# Altium integrated library Linear Technology Charge_Pump.IntLib: 599 symbols (part 8 of 29)
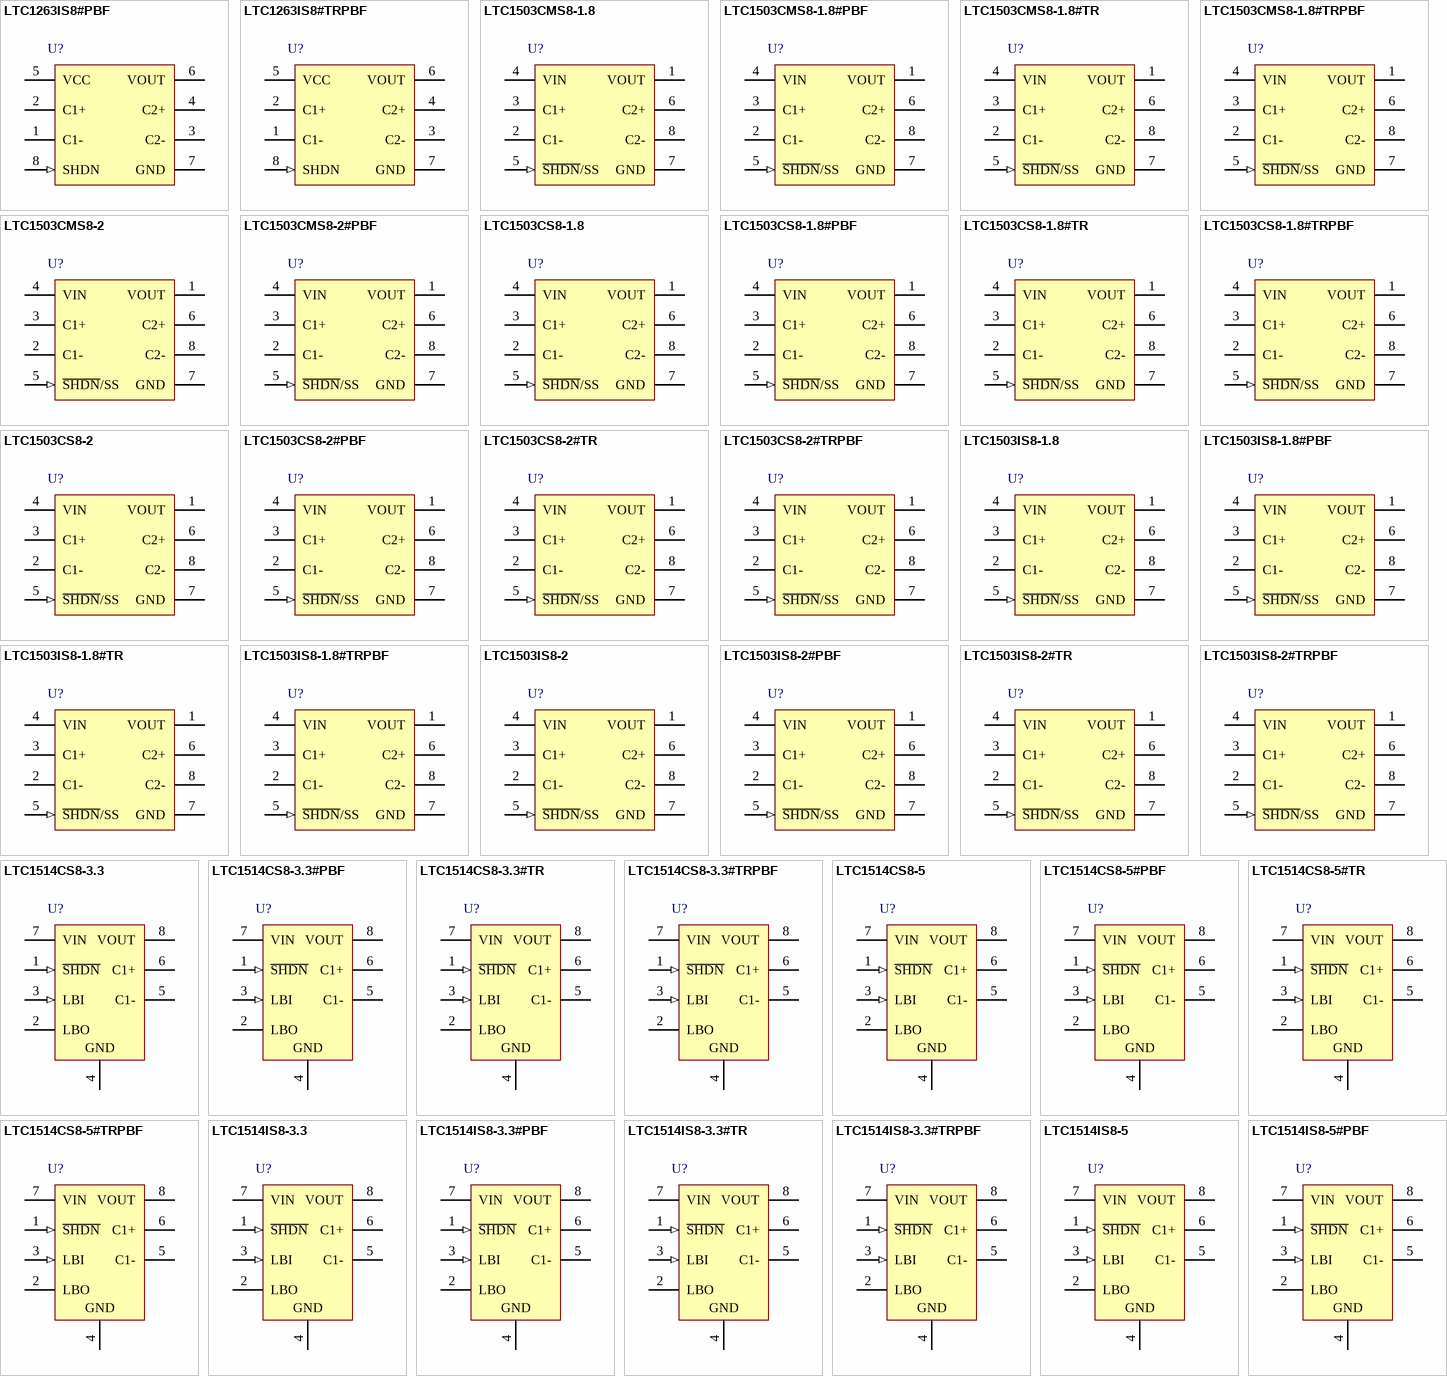
[diagram p23: symbols LTC1263IS8#PBF to LTC1514IS8-5#PBF]

## LTC1514CS8-5#PBF
designator U?
Step-Up / Step-Down Switched Capacitor DC/DC Converter with Low-Battery Comparator, 2.7 to 10 V Vin, 5 V Vout, 8-pin SOIC (S8-8), 0 to 70 degC, Pb-Free; Manufacturer: Linear Technology; PartNumber: LTC1514CS8-5#PBF; Frequency(kHz): 650; Ishutdown(uA): 10; Isupply(mA): 0.06; Max Iout(mA): 50; Vin Min(V): 2.7; Voutput: 5V; PackageVersion: Rev. G, 03/2012; PackageReference: S8-8; PackageDescription: 8-Pin Plastic Small Outline (Narrow .150 Inch), Body 4.9 x 3.9 mm, Pitch 1.27 mm; Supplier 1: Digi-Key; Supplier Part Number 1: LTC1514CS8-5#PBF-ND; RoHS: TRUE; Vin Max(V): 10; Mounting Technology: Surface Mount; ComponentLink1Description: Manufacturer URL; ComponentLink1URL: http://www.linear.com/; ComponentLink2Description: Datasheet; ComponentLink2URL: http://cds.linear.com/docs/en/datasheet/151435f.pdf; ComponentLink3Description: Package Specification; ComponentLink3URL: http://cds.linear.com/docs/en/packaging/05081610_G_SO8.pdf
footprint LT-S8-8_N (SOIC, 8-Leads, Body 5x4mm, Pitch 1.27mm, IPC Medium Density)
footprint LT-S8-8_L (SOIC, 8-Leads, Body 5x4mm, Pitch 1.27mm, IPC High Density)
footprint LT-S8-8_M (SOIC, 8-Leads, Body 5x4mm, Pitch 1.27mm, IPC Low Density)
pins: 1 ~{SHDN} (in) "Shutdown Input. A logic low on the S\H\D\N\ pin puts the part into shutdown mode. A logic high (VS\H\D\N\ >= 1.6V) enables the charge pump regulator. At high VIN voltages, the S\H\D\N\ pin may still be controlled with 3V (See Datasheet)", 2 LBO (oc) "Open-Drain, Low-Battery Comparator Output. This pin will pull low whenever the voltage on the LBI pin is less than the internal reference voltage (1.145V typ).", 3 LBI (in) "Low-Battery Comparator Input. The voltage on this pin is compared to the internal reference voltage (1.145V). The LBO output will sink current when the voltage on the LBI pin is less than 1.145V typ. The low-battery (See Datasheet)", 4 GND (power) "Ground. Should be tied to a ground plane for best performance.", 5 C1- "Charge Pump Flying Capacitor, Negative Terminal.", 6 C1+ "Charge Pump Flying Capacitor, Positive Terminal.", 7 VIN (power) "Charge Pump Input Voltage. May be between 2V and 8V (LTC1514-3.3) or between 2.7V and 10V (LTC1514-5). VIN should be bypassed with a >=10uF low ESR capacitor as close as possible to the pin for best performance.", 8 VOUT (power) "Regulated Output Voltage. The output voltage is internally set to either 3.3V (LTC1514-3.3) or to 5V (LTC1514-5) using an internal resistor divider. VOUT should be bypassed with a >=10uF low ESR capacitor as close as (See Datasheet)"

## LTC1514CS8-5#TR
designator U?
Step-Up / Step-Down Switched Capacitor DC/DC Converter with Low-Battery Comparator, 2.7 to 10 V Vin, 5 V Vout, 8-pin SOIC (S8-8), 0 to 70 degC, Tape and Reel; Manufacturer: Linear Technology; PartNumber: LTC1514CS8-5#TR; Frequency(kHz): 650; Ishutdown(uA): 10; Isupply(mA): 0.06; Max Iout(mA): 50; Vin Min(V): 2.7; Voutput: 5V; PackageVersion: Rev. G, 03/2012; PackageReference: S8-8; PackageDescription: 8-Pin Plastic Small Outline (Narrow .150 Inch), Body 4.9 x 3.9 mm, Pitch 1.27 mm; Supplier 1: Digi-Key; Supplier Part Number 1: LTC1514CS8-5#TR-ND; Packing: Tape and Reel; RoHS: FALSE; Vin Max(V): 10; Mounting Technology: Surface Mount; ComponentLink1Description: Manufacturer URL; ComponentLink1URL: http://www.linear.com/; ComponentLink2Description: Datasheet; ComponentLink2URL: http://cds.linear.com/docs/en/datasheet/151435f.pdf; ComponentLink3Description: Package Specification; ComponentLink3URL: http://cds.linear.com/docs/en/packaging/05081610_G_SO8.pdf
footprint LT-S8-8_N (SOIC, 8-Leads, Body 5x4mm, Pitch 1.27mm, IPC Medium Density)
footprint LT-S8-8_L (SOIC, 8-Leads, Body 5x4mm, Pitch 1.27mm, IPC High Density)
footprint LT-S8-8_M (SOIC, 8-Leads, Body 5x4mm, Pitch 1.27mm, IPC Low Density)
pins: 1 ~{SHDN} (in) "Shutdown Input. A logic low on the S\H\D\N\ pin puts the part into shutdown mode. A logic high (VS\H\D\N\ >= 1.6V) enables the charge pump regulator. At high VIN voltages, the S\H\D\N\ pin may still be controlled with 3V (See Datasheet)", 2 LBO (oc) "Open-Drain, Low-Battery Comparator Output. This pin will pull low whenever the voltage on the LBI pin is less than the internal reference voltage (1.145V typ).", 3 LBI (in) "Low-Battery Comparator Input. The voltage on this pin is compared to the internal reference voltage (1.145V). The LBO output will sink current when the voltage on the LBI pin is less than 1.145V typ. The low-battery (See Datasheet)", 4 GND (power) "Ground. Should be tied to a ground plane for best performance.", 5 C1- "Charge Pump Flying Capacitor, Negative Terminal.", 6 C1+ "Charge Pump Flying Capacitor, Positive Terminal.", 7 VIN (power) "Charge Pump Input Voltage. May be between 2V and 8V (LTC1514-3.3) or between 2.7V and 10V (LTC1514-5). VIN should be bypassed with a >=10uF low ESR capacitor as close as possible to the pin for best performance.", 8 VOUT (power) "Regulated Output Voltage. The output voltage is internally set to either 3.3V (LTC1514-3.3) or to 5V (LTC1514-5) using an internal resistor divider. VOUT should be bypassed with a >=10uF low ESR capacitor as close as (See Datasheet)"

## LTC1514CS8-5#TRPBF
designator U?
Step-Up / Step-Down Switched Capacitor DC/DC Converter with Low-Battery Comparator, 2.7 to 10 V Vin, 5 V Vout, 8-pin SOIC (S8-8), 0 to 70 degC, Pb-Free, Tape and Reel; Manufacturer: Linear Technology; PartNumber: LTC1514CS8-5#TRPBF; Frequency(kHz): 650; Ishutdown(uA): 10; Isupply(mA): 0.06; Max Iout(mA): 50; Vin Min(V): 2.7; Voutput: 5V; PackageVersion: Rev. G, 03/2012; PackageReference: S8-8; PackageDescription: 8-Pin Plastic Small Outline (Narrow .150 Inch), Body 4.9 x 3.9 mm, Pitch 1.27 mm; Supplier 1: Digi-Key; Supplier Part Number 1: LTC1514CS8-5#TRPBF-ND; Packing: Tape and Reel; RoHS: TRUE; Vin Max(V): 10; Mounting Technology: Surface Mount; ComponentLink1Description: Manufacturer URL; ComponentLink1URL: http://www.linear.com/; ComponentLink2Description: Datasheet; ComponentLink2URL: http://cds.linear.com/docs/en/datasheet/151435f.pdf; ComponentLink3Description: Package Specification; ComponentLink3URL: http://cds.linear.com/docs/en/packaging/05081610_G_SO8.pdf
footprint LT-S8-8_N (SOIC, 8-Leads, Body 5x4mm, Pitch 1.27mm, IPC Medium Density)
footprint LT-S8-8_L (SOIC, 8-Leads, Body 5x4mm, Pitch 1.27mm, IPC High Density)
footprint LT-S8-8_M (SOIC, 8-Leads, Body 5x4mm, Pitch 1.27mm, IPC Low Density)
pins: 1 ~{SHDN} (in) "Shutdown Input. A logic low on the S\H\D\N\ pin puts the part into shutdown mode. A logic high (VS\H\D\N\ >= 1.6V) enables the charge pump regulator. At high VIN voltages, the S\H\D\N\ pin may still be controlled with 3V (See Datasheet)", 2 LBO (oc) "Open-Drain, Low-Battery Comparator Output. This pin will pull low whenever the voltage on the LBI pin is less than the internal reference voltage (1.145V typ).", 3 LBI (in) "Low-Battery Comparator Input. The voltage on this pin is compared to the internal reference voltage (1.145V). The LBO output will sink current when the voltage on the LBI pin is less than 1.145V typ. The low-battery (See Datasheet)", 4 GND (power) "Ground. Should be tied to a ground plane for best performance.", 5 C1- "Charge Pump Flying Capacitor, Negative Terminal.", 6 C1+ "Charge Pump Flying Capacitor, Positive Terminal.", 7 VIN (power) "Charge Pump Input Voltage. May be between 2V and 8V (LTC1514-3.3) or between 2.7V and 10V (LTC1514-5). VIN should be bypassed with a >=10uF low ESR capacitor as close as possible to the pin for best performance.", 8 VOUT (power) "Regulated Output Voltage. The output voltage is internally set to either 3.3V (LTC1514-3.3) or to 5V (LTC1514-5) using an internal resistor divider. VOUT should be bypassed with a >=10uF low ESR capacitor as close as (See Datasheet)"

## LTC1514IS8-3.3
designator U?
Step-Up / Step-Down Switched Capacitor DC/DC Converter with Low-Battery Comparator, 2 to 8 V Vin, 3.3 V Vout, 8-pin SOIC (S8-8), -40 to 85 degC; Manufacturer: Linear Technology; PartNumber: LTC1514IS8-3.3; Frequency(kHz): 650; Ishutdown(uA): 10; Isupply(mA): 0.06; Max Iout(mA): 50; Vin Max(V): 8; Vin Min(V): 2; Voutput: 3.3V; PackageVersion: Rev. G, 03/2012; PackageReference: S8-8; PackageDescription: 8-Pin Plastic Small Outline (Narrow .150 Inch), Body 4.9 x 3.9 mm, Pitch 1.27 mm; Supplier 1: Digi-Key; Supplier Part Number 1: LTC1514IS8-3.3-ND; RoHS: FALSE; Mounting Technology: Surface Mount; ComponentLink1Description: Manufacturer URL; ComponentLink1URL: http://www.linear.com/; ComponentLink2Description: Datasheet; ComponentLink2URL: http://cds.linear.com/docs/en/datasheet/151435f.pdf; ComponentLink3Description: Package Specification; ComponentLink3URL: http://cds.linear.com/docs/en/packaging/05081610_G_SO8.pdf
footprint LT-S8-8_N (SOIC, 8-Leads, Body 5x4mm, Pitch 1.27mm, IPC Medium Density)
footprint LT-S8-8_L (SOIC, 8-Leads, Body 5x4mm, Pitch 1.27mm, IPC High Density)
footprint LT-S8-8_M (SOIC, 8-Leads, Body 5x4mm, Pitch 1.27mm, IPC Low Density)
pins: 1 ~{SHDN} (in) "Shutdown Input. A logic low on the S\H\D\N\ pin puts the part into shutdown mode. A logic high (VS\H\D\N\ >= 1.6V) enables the charge pump regulator. At high VIN voltages, the S\H\D\N\ pin may still be controlled with 3V (See Datasheet)", 2 LBO (oc) "Open-Drain, Low-Battery Comparator Output. This pin will pull low whenever the voltage on the LBI pin is less than the internal reference voltage (1.145V typ).", 3 LBI (in) "Low-Battery Comparator Input. The voltage on this pin is compared to the internal reference voltage (1.145V). The LBO output will sink current when the voltage on the LBI pin is less than 1.145V typ. The low-battery (See Datasheet)", 4 GND (power) "Ground. Should be tied to a ground plane for best performance.", 5 C1- "Charge Pump Flying Capacitor, Negative Terminal.", 6 C1+ "Charge Pump Flying Capacitor, Positive Terminal.", 7 VIN (power) "Charge Pump Input Voltage. May be between 2V and 8V (LTC1514-3.3) or between 2.7V and 10V (LTC1514-5). VIN should be bypassed with a >=10uF low ESR capacitor as close as possible to the pin for best performance.", 8 VOUT (power) "Regulated Output Voltage. The output voltage is internally set to either 3.3V (LTC1514-3.3) or to 5V (LTC1514-5) using an internal resistor divider. VOUT should be bypassed with a >=10uF low ESR capacitor as close as (See Datasheet)"

## LTC1514IS8-3.3#PBF
designator U?
Step-Up / Step-Down Switched Capacitor DC/DC Converter with Low-Battery Comparator, 2 to 8 V Vin, 3.3 V Vout, 8-pin SOIC (S8-8), -40 to 85 degC, Pb-Free; Manufacturer: Linear Technology; PartNumber: LTC1514IS8-3.3#PBF; Frequency(kHz): 650; Ishutdown(uA): 10; Isupply(mA): 0.06; Max Iout(mA): 50; Vin Max(V): 8; Vin Min(V): 2; Voutput: 3.3V; PackageVersion: Rev. G, 03/2012; PackageReference: S8-8; PackageDescription: 8-Pin Plastic Small Outline (Narrow .150 Inch), Body 4.9 x 3.9 mm, Pitch 1.27 mm; Supplier 1: Digi-Key; Supplier Part Number 1: LTC1514IS8-3.3#PBF-ND; RoHS: TRUE; Mounting Technology: Surface Mount; ComponentLink1Description: Manufacturer URL; ComponentLink1URL: http://www.linear.com/; ComponentLink2Description: Datasheet; ComponentLink2URL: http://cds.linear.com/docs/en/datasheet/151435f.pdf; ComponentLink3Description: Package Specification; ComponentLink3URL: http://cds.linear.com/docs/en/packaging/05081610_G_SO8.pdf
footprint LT-S8-8_N (SOIC, 8-Leads, Body 5x4mm, Pitch 1.27mm, IPC Medium Density)
footprint LT-S8-8_L (SOIC, 8-Leads, Body 5x4mm, Pitch 1.27mm, IPC High Density)
footprint LT-S8-8_M (SOIC, 8-Leads, Body 5x4mm, Pitch 1.27mm, IPC Low Density)
pins: 1 ~{SHDN} (in) "Shutdown Input. A logic low on the S\H\D\N\ pin puts the part into shutdown mode. A logic high (VS\H\D\N\ >= 1.6V) enables the charge pump regulator. At high VIN voltages, the S\H\D\N\ pin may still be controlled with 3V (See Datasheet)", 2 LBO (oc) "Open-Drain, Low-Battery Comparator Output. This pin will pull low whenever the voltage on the LBI pin is less than the internal reference voltage (1.145V typ).", 3 LBI (in) "Low-Battery Comparator Input. The voltage on this pin is compared to the internal reference voltage (1.145V). The LBO output will sink current when the voltage on the LBI pin is less than 1.145V typ. The low-battery (See Datasheet)", 4 GND (power) "Ground. Should be tied to a ground plane for best performance.", 5 C1- "Charge Pump Flying Capacitor, Negative Terminal.", 6 C1+ "Charge Pump Flying Capacitor, Positive Terminal.", 7 VIN (power) "Charge Pump Input Voltage. May be between 2V and 8V (LTC1514-3.3) or between 2.7V and 10V (LTC1514-5). VIN should be bypassed with a >=10uF low ESR capacitor as close as possible to the pin for best performance.", 8 VOUT (power) "Regulated Output Voltage. The output voltage is internally set to either 3.3V (LTC1514-3.3) or to 5V (LTC1514-5) using an internal resistor divider. VOUT should be bypassed with a >=10uF low ESR capacitor as close as (See Datasheet)"

## LTC1514IS8-3.3#TR
designator U?
Step-Up / Step-Down Switched Capacitor DC/DC Converter with Low-Battery Comparator, 2 to 8 V Vin, 3.3 V Vout, 8-pin SOIC (S8-8), -40 to 85 degC, Tape and Reel; Manufacturer: Linear Technology; PartNumber: LTC1514IS8-3.3#TR; Frequency(kHz): 650; Ishutdown(uA): 10; Isupply(mA): 0.06; Max Iout(mA): 50; Vin Max(V): 8; Vin Min(V): 2; Voutput: 3.3V; PackageVersion: Rev. G, 03/2012; PackageReference: S8-8; PackageDescription: 8-Pin Plastic Small Outline (Narrow .150 Inch), Body 4.9 x 3.9 mm, Pitch 1.27 mm; Supplier 1: Digi-Key; Supplier Part Number 1: LTC1514IS8-3.3#TR-ND; Packing: Tape and Reel; RoHS: FALSE; Mounting Technology: Surface Mount; ComponentLink1Description: Manufacturer URL; ComponentLink1URL: http://www.linear.com/; ComponentLink2Description: Datasheet; ComponentLink2URL: http://cds.linear.com/docs/en/datasheet/151435f.pdf; ComponentLink3Description: Package Specification; ComponentLink3URL: http://cds.linear.com/docs/en/packaging/05081610_G_SO8.pdf
footprint LT-S8-8_N (SOIC, 8-Leads, Body 5x4mm, Pitch 1.27mm, IPC Medium Density)
footprint LT-S8-8_L (SOIC, 8-Leads, Body 5x4mm, Pitch 1.27mm, IPC High Density)
footprint LT-S8-8_M (SOIC, 8-Leads, Body 5x4mm, Pitch 1.27mm, IPC Low Density)
pins: 1 ~{SHDN} (in) "Shutdown Input. A logic low on the S\H\D\N\ pin puts the part into shutdown mode. A logic high (VS\H\D\N\ >= 1.6V) enables the charge pump regulator. At high VIN voltages, the S\H\D\N\ pin may still be controlled with 3V (See Datasheet)", 2 LBO (oc) "Open-Drain, Low-Battery Comparator Output. This pin will pull low whenever the voltage on the LBI pin is less than the internal reference voltage (1.145V typ).", 3 LBI (in) "Low-Battery Comparator Input. The voltage on this pin is compared to the internal reference voltage (1.145V). The LBO output will sink current when the voltage on the LBI pin is less than 1.145V typ. The low-battery (See Datasheet)", 4 GND (power) "Ground. Should be tied to a ground plane for best performance.", 5 C1- "Charge Pump Flying Capacitor, Negative Terminal.", 6 C1+ "Charge Pump Flying Capacitor, Positive Terminal.", 7 VIN (power) "Charge Pump Input Voltage. May be between 2V and 8V (LTC1514-3.3) or between 2.7V and 10V (LTC1514-5). VIN should be bypassed with a >=10uF low ESR capacitor as close as possible to the pin for best performance.", 8 VOUT (power) "Regulated Output Voltage. The output voltage is internally set to either 3.3V (LTC1514-3.3) or to 5V (LTC1514-5) using an internal resistor divider. VOUT should be bypassed with a >=10uF low ESR capacitor as close as (See Datasheet)"

## LTC1514IS8-3.3#TRPBF
designator U?
Step-Up / Step-Down Switched Capacitor DC/DC Converter with Low-Battery Comparator, 2 to 8 V Vin, 3.3 V Vout, 8-pin SOIC (S8-8), -40 to 85 degC, Pb-Free, Tape and Reel; Manufacturer: Linear Technology; PartNumber: LTC1514IS8-3.3#TRPBF; Frequency(kHz): 650; Ishutdown(uA): 10; Isupply(mA): 0.06; Max Iout(mA): 50; Vin Max(V): 8; Vin Min(V): 2; Voutput: 3.3V; PackageVersion: Rev. G, 03/2012; PackageReference: S8-8; PackageDescription: 8-Pin Plastic Small Outline (Narrow .150 Inch), Body 4.9 x 3.9 mm, Pitch 1.27 mm; Supplier 1: Digi-Key; Supplier Part Number 1: LTC1514IS8-3.3#TRPBF-ND; Packing: Tape and Reel; RoHS: TRUE; Mounting Technology: Surface Mount; ComponentLink1Description: Manufacturer URL; ComponentLink1URL: http://www.linear.com/; ComponentLink2Description: Datasheet; ComponentLink2URL: http://cds.linear.com/docs/en/datasheet/151435f.pdf; ComponentLink3Description: Package Specification; ComponentLink3URL: http://cds.linear.com/docs/en/packaging/05081610_G_SO8.pdf
footprint LT-S8-8_N (SOIC, 8-Leads, Body 5x4mm, Pitch 1.27mm, IPC Medium Density)
footprint LT-S8-8_L (SOIC, 8-Leads, Body 5x4mm, Pitch 1.27mm, IPC High Density)
footprint LT-S8-8_M (SOIC, 8-Leads, Body 5x4mm, Pitch 1.27mm, IPC Low Density)
pins: 1 ~{SHDN} (in) "Shutdown Input. A logic low on the S\H\D\N\ pin puts the part into shutdown mode. A logic high (VS\H\D\N\ >= 1.6V) enables the charge pump regulator. At high VIN voltages, the S\H\D\N\ pin may still be controlled with 3V (See Datasheet)", 2 LBO (oc) "Open-Drain, Low-Battery Comparator Output. This pin will pull low whenever the voltage on the LBI pin is less than the internal reference voltage (1.145V typ).", 3 LBI (in) "Low-Battery Comparator Input. The voltage on this pin is compared to the internal reference voltage (1.145V). The LBO output will sink current when the voltage on the LBI pin is less than 1.145V typ. The low-battery (See Datasheet)", 4 GND (power) "Ground. Should be tied to a ground plane for best performance.", 5 C1- "Charge Pump Flying Capacitor, Negative Terminal.", 6 C1+ "Charge Pump Flying Capacitor, Positive Terminal.", 7 VIN (power) "Charge Pump Input Voltage. May be between 2V and 8V (LTC1514-3.3) or between 2.7V and 10V (LTC1514-5). VIN should be bypassed with a >=10uF low ESR capacitor as close as possible to the pin for best performance.", 8 VOUT (power) "Regulated Output Voltage. The output voltage is internally set to either 3.3V (LTC1514-3.3) or to 5V (LTC1514-5) using an internal resistor divider. VOUT should be bypassed with a >=10uF low ESR capacitor as close as (See Datasheet)"

## LTC1514IS8-5
designator U?
Step-Up / Step-Down Switched Capacitor DC/DC Converter with Low-Battery Comparator, 2.7 to 10 V Vin, 5 V Vout, 8-pin SOIC (S8-8), -40 to 85 degC; Manufacturer: Linear Technology; PartNumber: LTC1514IS8-5; Frequency(kHz): 650; Ishutdown(uA): 10; Isupply(mA): 0.06; Max Iout(mA): 50; Vin Min(V): 2.7; Voutput: 5V; PackageVersion: Rev. G, 03/2012; PackageReference: S8-8; PackageDescription: 8-Pin Plastic Small Outline (Narrow .150 Inch), Body 4.9 x 3.9 mm, Pitch 1.27 mm; Supplier 1: Digi-Key; Supplier Part Number 1: LTC1514IS8-5-ND; RoHS: FALSE; Vin Max(V): 10; Mounting Technology: Surface Mount; ComponentLink1Description: Manufacturer URL; ComponentLink1URL: http://www.linear.com/; ComponentLink2Description: Datasheet; ComponentLink2URL: http://cds.linear.com/docs/en/datasheet/151435f.pdf; ComponentLink3Description: Package Specification; ComponentLink3URL: http://cds.linear.com/docs/en/packaging/05081610_G_SO8.pdf
footprint LT-S8-8_N (SOIC, 8-Leads, Body 5x4mm, Pitch 1.27mm, IPC Medium Density)
footprint LT-S8-8_L (SOIC, 8-Leads, Body 5x4mm, Pitch 1.27mm, IPC High Density)
footprint LT-S8-8_M (SOIC, 8-Leads, Body 5x4mm, Pitch 1.27mm, IPC Low Density)
pins: 1 ~{SHDN} (in) "Shutdown Input. A logic low on the S\H\D\N\ pin puts the part into shutdown mode. A logic high (VS\H\D\N\ >= 1.6V) enables the charge pump regulator. At high VIN voltages, the S\H\D\N\ pin may still be controlled with 3V (See Datasheet)", 2 LBO (oc) "Open-Drain, Low-Battery Comparator Output. This pin will pull low whenever the voltage on the LBI pin is less than the internal reference voltage (1.145V typ).", 3 LBI (in) "Low-Battery Comparator Input. The voltage on this pin is compared to the internal reference voltage (1.145V). The LBO output will sink current when the voltage on the LBI pin is less than 1.145V typ. The low-battery (See Datasheet)", 4 GND (power) "Ground. Should be tied to a ground plane for best performance.", 5 C1- "Charge Pump Flying Capacitor, Negative Terminal.", 6 C1+ "Charge Pump Flying Capacitor, Positive Terminal.", 7 VIN (power) "Charge Pump Input Voltage. May be between 2V and 8V (LTC1514-3.3) or between 2.7V and 10V (LTC1514-5). VIN should be bypassed with a >=10uF low ESR capacitor as close as possible to the pin for best performance.", 8 VOUT (power) "Regulated Output Voltage. The output voltage is internally set to either 3.3V (LTC1514-3.3) or to 5V (LTC1514-5) using an internal resistor divider. VOUT should be bypassed with a >=10uF low ESR capacitor as close as (See Datasheet)"

## LTC1514IS8-5#PBF
designator U?
Step-Up / Step-Down Switched Capacitor DC/DC Converter with Low-Battery Comparator, 2.7 to 10 V Vin, 5 V Vout, 8-pin SOIC (S8-8), -40 to 85 degC, Pb-Free; Manufacturer: Linear Technology; PartNumber: LTC1514IS8-5#PBF; Frequency(kHz): 650; Ishutdown(uA): 10; Isupply(mA): 0.06; Max Iout(mA): 50; Vin Min(V): 2.7; Voutput: 5V; PackageVersion: Rev. G, 03/2012; PackageReference: S8-8; PackageDescription: 8-Pin Plastic Small Outline (Narrow .150 Inch), Body 4.9 x 3.9 mm, Pitch 1.27 mm; Supplier 1: Digi-Key; Supplier Part Number 1: LTC1514IS8-5#PBF-ND; Supplier 2: Newark; Supplier Part Number 2: 56M1709; RoHS: TRUE; Vin Max(V): 10; Mounting Technology: Surface Mount; ComponentLink1Description: Manufacturer URL; ComponentLink1URL: http://www.linear.com/; ComponentLink2Description: Datasheet; ComponentLink2URL: http://cds.linear.com/docs/en/datasheet/151435f.pdf; ComponentLink3Description: Package Specification; ComponentLink3URL: http://cds.linear.com/docs/en/packaging/05081610_G_SO8.pdf
footprint LT-S8-8_N (SOIC, 8-Leads, Body 5x4mm, Pitch 1.27mm, IPC Medium Density)
footprint LT-S8-8_L (SOIC, 8-Leads, Body 5x4mm, Pitch 1.27mm, IPC High Density)
footprint LT-S8-8_M (SOIC, 8-Leads, Body 5x4mm, Pitch 1.27mm, IPC Low Density)
pins: 1 ~{SHDN} (in) "Shutdown Input. A logic low on the S\H\D\N\ pin puts the part into shutdown mode. A logic high (VS\H\D\N\ >= 1.6V) enables the charge pump regulator. At high VIN voltages, the S\H\D\N\ pin may still be controlled with 3V (See Datasheet)", 2 LBO (oc) "Open-Drain, Low-Battery Comparator Output. This pin will pull low whenever the voltage on the LBI pin is less than the internal reference voltage (1.145V typ).", 3 LBI (in) "Low-Battery Comparator Input. The voltage on this pin is compared to the internal reference voltage (1.145V). The LBO output will sink current when the voltage on the LBI pin is less than 1.145V typ. The low-battery (See Datasheet)", 4 GND (power) "Ground. Should be tied to a ground plane for best performance.", 5 C1- "Charge Pump Flying Capacitor, Negative Terminal.", 6 C1+ "Charge Pump Flying Capacitor, Positive Terminal.", 7 VIN (power) "Charge Pump Input Voltage. May be between 2V and 8V (LTC1514-3.3) or between 2.7V and 10V (LTC1514-5). VIN should be bypassed with a >=10uF low ESR capacitor as close as possible to the pin for best performance.", 8 VOUT (power) "Regulated Output Voltage. The output voltage is internally set to either 3.3V (LTC1514-3.3) or to 5V (LTC1514-5) using an internal resistor divider. VOUT should be bypassed with a >=10uF low ESR capacitor as close as (See Datasheet)"

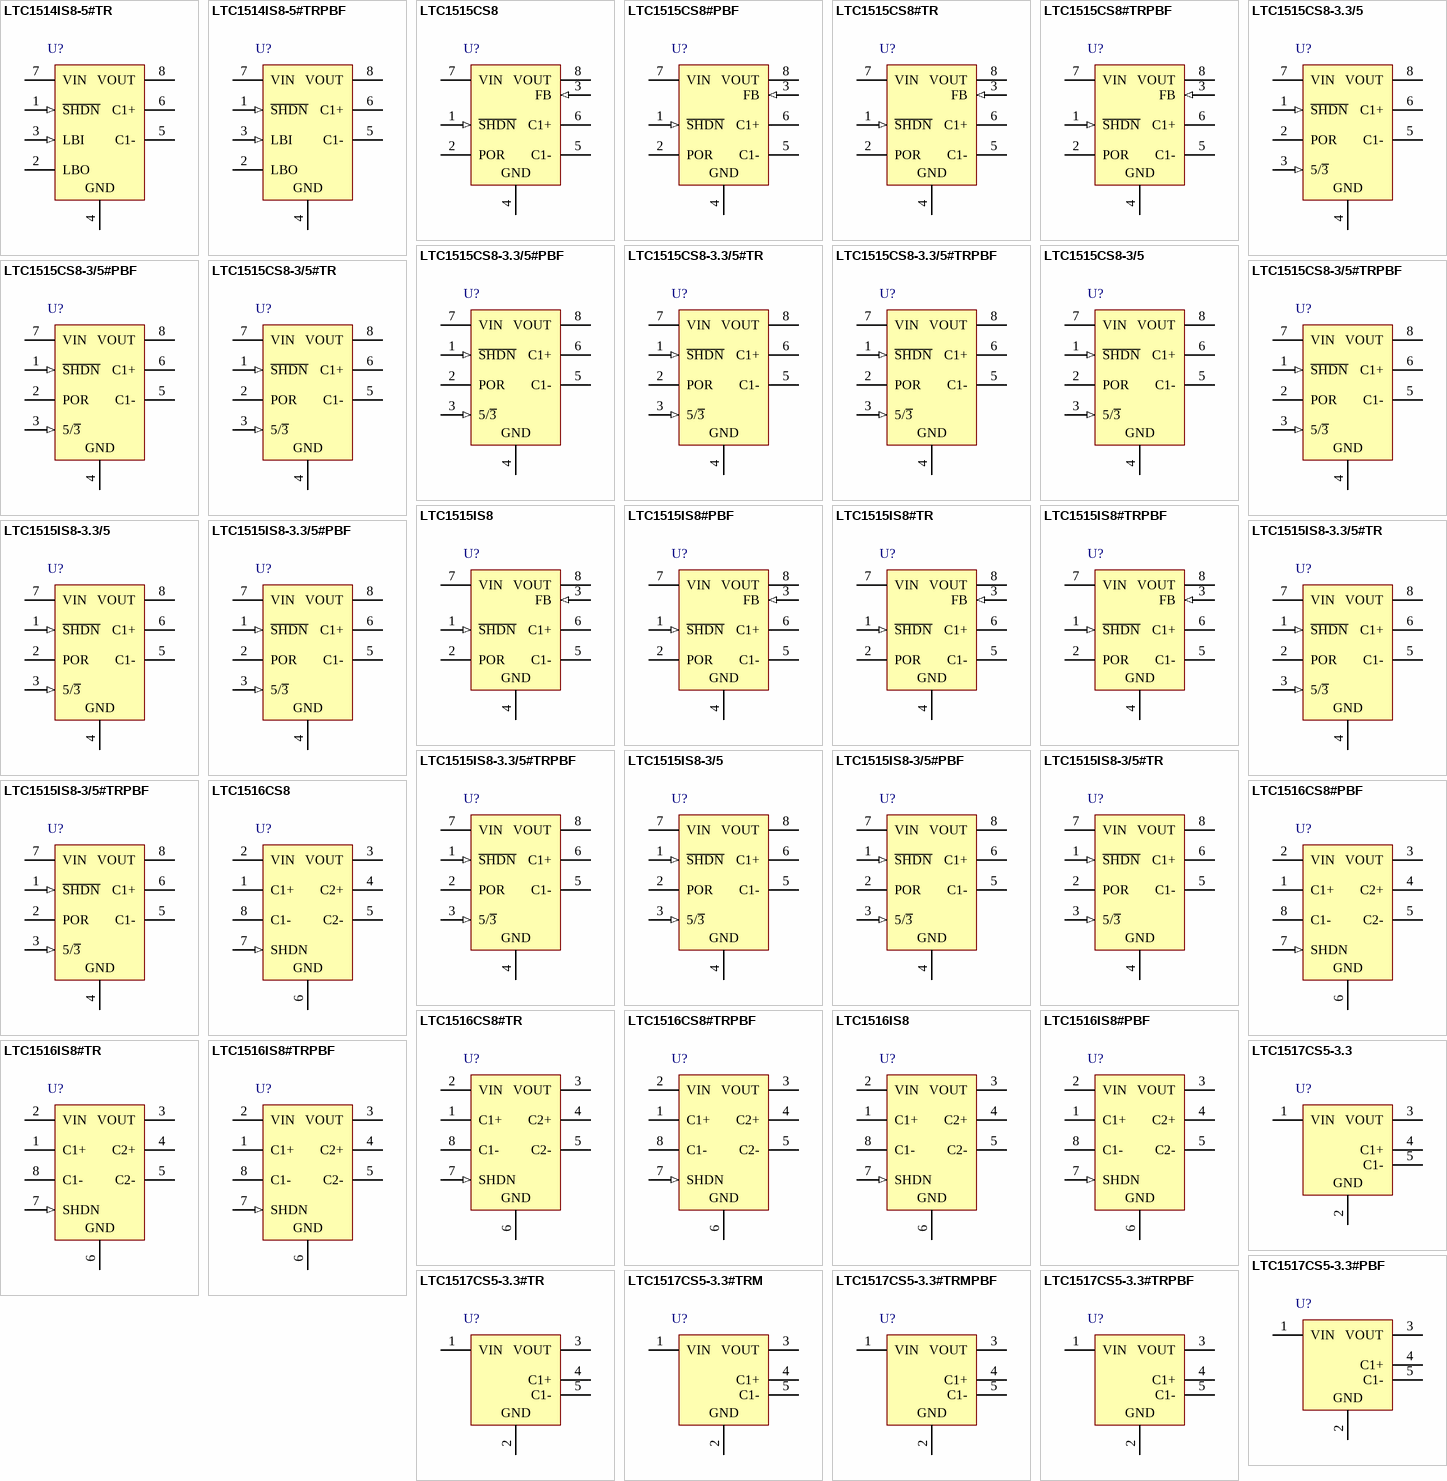
[diagram p5: symbols LTC1514IS8-5#TR to LTC1517CS5-3.3#TRPBF]

## LTC1514IS8-5#TR
designator U?
Step-Up / Step-Down Switched Capacitor DC/DC Converter with Low-Battery Comparator, 2.7 to 10 V Vin, 5 V Vout, 8-pin SOIC (S8-8), -40 to 85 degC, Tape and Reel; Manufacturer: Linear Technology; PartNumber: LTC1514IS8-5#TR; Frequency(kHz): 650; Ishutdown(uA): 10; Isupply(mA): 0.06; Max Iout(mA): 50; Vin Min(V): 2.7; Voutput: 5V; PackageVersion: Rev. G, 03/2012; PackageReference: S8-8; PackageDescription: 8-Pin Plastic Small Outline (Narrow .150 Inch), Body 4.9 x 3.9 mm, Pitch 1.27 mm; Supplier 1: Digi-Key; Supplier Part Number 1: LTC1514IS8-5#TR-ND; Packing: Tape and Reel; RoHS: FALSE; Vin Max(V): 10; Mounting Technology: Surface Mount; ComponentLink1Description: Manufacturer URL; ComponentLink1URL: http://www.linear.com/; ComponentLink2Description: Datasheet; ComponentLink2URL: http://cds.linear.com/docs/en/datasheet/151435f.pdf; ComponentLink3Description: Package Specification; ComponentLink3URL: http://cds.linear.com/docs/en/packaging/05081610_G_SO8.pdf
footprint LT-S8-8_N (SOIC, 8-Leads, Body 5x4mm, Pitch 1.27mm, IPC Medium Density)
footprint LT-S8-8_L (SOIC, 8-Leads, Body 5x4mm, Pitch 1.27mm, IPC High Density)
footprint LT-S8-8_M (SOIC, 8-Leads, Body 5x4mm, Pitch 1.27mm, IPC Low Density)
pins: 1 ~{SHDN} (in) "Shutdown Input. A logic low on the S\H\D\N\ pin puts the part into shutdown mode. A logic high (VS\H\D\N\ >= 1.6V) enables the charge pump regulator. At high VIN voltages, the S\H\D\N\ pin may still be controlled with 3V (See Datasheet)", 2 LBO (oc) "Open-Drain, Low-Battery Comparator Output. This pin will pull low whenever the voltage on the LBI pin is less than the internal reference voltage (1.145V typ).", 3 LBI (in) "Low-Battery Comparator Input. The voltage on this pin is compared to the internal reference voltage (1.145V). The LBO output will sink current when the voltage on the LBI pin is less than 1.145V typ. The low-battery (See Datasheet)", 4 GND (power) "Ground. Should be tied to a ground plane for best performance.", 5 C1- "Charge Pump Flying Capacitor, Negative Terminal.", 6 C1+ "Charge Pump Flying Capacitor, Positive Terminal.", 7 VIN (power) "Charge Pump Input Voltage. May be between 2V and 8V (LTC1514-3.3) or between 2.7V and 10V (LTC1514-5). VIN should be bypassed with a >=10uF low ESR capacitor as close as possible to the pin for best performance.", 8 VOUT (power) "Regulated Output Voltage. The output voltage is internally set to either 3.3V (LTC1514-3.3) or to 5V (LTC1514-5) using an internal resistor divider. VOUT should be bypassed with a >=10uF low ESR capacitor as close as (See Datasheet)"

## LTC1514IS8-5#TRPBF
designator U?
Step-Up / Step-Down Switched Capacitor DC/DC Converter with Low-Battery Comparator, 2.7 to 10 V Vin, 5 V Vout, 8-pin SOIC (S8-8), -40 to 85 degC, Pb-Free, Tape and Reel; Manufacturer: Linear Technology; PartNumber: LTC1514IS8-5#TRPBF; Frequency(kHz): 650; Ishutdown(uA): 10; Isupply(mA): 0.06; Max Iout(mA): 50; Vin Min(V): 2.7; Voutput: 5V; PackageVersion: Rev. G, 03/2012; PackageReference: S8-8; PackageDescription: 8-Pin Plastic Small Outline (Narrow .150 Inch), Body 4.9 x 3.9 mm, Pitch 1.27 mm; Supplier 1: Digi-Key; Supplier Part Number 1: LTC1514IS8-5#TRPBF-ND; Packing: Tape and Reel; RoHS: TRUE; Vin Max(V): 10; Mounting Technology: Surface Mount; ComponentLink1Description: Manufacturer URL; ComponentLink1URL: http://www.linear.com/; ComponentLink2Description: Datasheet; ComponentLink2URL: http://cds.linear.com/docs/en/datasheet/151435f.pdf; ComponentLink3Description: Package Specification; ComponentLink3URL: http://cds.linear.com/docs/en/packaging/05081610_G_SO8.pdf
footprint LT-S8-8_N (SOIC, 8-Leads, Body 5x4mm, Pitch 1.27mm, IPC Medium Density)
footprint LT-S8-8_L (SOIC, 8-Leads, Body 5x4mm, Pitch 1.27mm, IPC High Density)
footprint LT-S8-8_M (SOIC, 8-Leads, Body 5x4mm, Pitch 1.27mm, IPC Low Density)
pins: 1 ~{SHDN} (in) "Shutdown Input. A logic low on the S\H\D\N\ pin puts the part into shutdown mode. A logic high (VS\H\D\N\ >= 1.6V) enables the charge pump regulator. At high VIN voltages, the S\H\D\N\ pin may still be controlled with 3V (See Datasheet)", 2 LBO (oc) "Open-Drain, Low-Battery Comparator Output. This pin will pull low whenever the voltage on the LBI pin is less than the internal reference voltage (1.145V typ).", 3 LBI (in) "Low-Battery Comparator Input. The voltage on this pin is compared to the internal reference voltage (1.145V). The LBO output will sink current when the voltage on the LBI pin is less than 1.145V typ. The low-battery (See Datasheet)", 4 GND (power) "Ground. Should be tied to a ground plane for best performance.", 5 C1- "Charge Pump Flying Capacitor, Negative Terminal.", 6 C1+ "Charge Pump Flying Capacitor, Positive Terminal.", 7 VIN (power) "Charge Pump Input Voltage. May be between 2V and 8V (LTC1514-3.3) or between 2.7V and 10V (LTC1514-5). VIN should be bypassed with a >=10uF low ESR capacitor as close as possible to the pin for best performance.", 8 VOUT (power) "Regulated Output Voltage. The output voltage is internally set to either 3.3V (LTC1514-3.3) or to 5V (LTC1514-5) using an internal resistor divider. VOUT should be bypassed with a >=10uF low ESR capacitor as close as (See Datasheet)"

## LTC1515CS8
designator U?
Step-Up / Step-Down Switched Capacitor DC/DC Converter with Reset, 2 to 10 V Vin, Adjustable Vout, 8-pin SOIC (S8-8), 0 to 70 degC; Manufacturer: Linear Technology; PartNumber: LTC1515CS8; Frequency(kHz): 650; Ishutdown(uA): 1; Isupply(mA): 0.06; Max Iout(mA): 50; Vin Max(V): 10; Vin Min(V): 2; Voutput: Adj; PackageVersion: Rev. G, 03/2012; PackageReference: S8-8; PackageDescription: 8-Pin Plastic Small Outline (Narrow .150 Inch), Body 4.9 x 3.9 mm, Pitch 1.27 mm; Supplier 1: Digi-Key; Supplier Part Number 1: LTC1515CS8-ND; RoHS: FALSE; Mounting Technology: Surface Mount; ComponentLink1Description: Manufacturer URL; ComponentLink1URL: http://www.linear.com/; ComponentLink2Description: Datasheet; ComponentLink2URL: http://cds.linear.com/docs/en/datasheet/1515sf.pdf; ComponentLink3Description: Package Specification; ComponentLink3URL: http://cds.linear.com/docs/en/packaging/05081610_G_SO8.pdf
footprint LT-S8-8_N (SOIC, 8-Leads, Body 5x4mm, Pitch 1.27mm, IPC Medium Density)
footprint LT-S8-8_L (SOIC, 8-Leads, Body 5x4mm, Pitch 1.27mm, IPC High Density)
footprint LT-S8-8_M (SOIC, 8-Leads, Body 5x4mm, Pitch 1.27mm, IPC Low Density)
pins: 1 ~{SHDN} (in) "Shutdown Input. A logic low on the S\H\D\N\ pin puts the part into shutdown mode. A logic high (VS\H\D\N\ >= 1.6V) enables the charge pump regulator. At high VIN voltages, the S\H\D\N\ pin may still be controlled with 3V (See Datasheet)", 2 POR (oc) "Open-Drain Power-On Reset Output. This pin will pull low upon initial power-up, during shutdown or until VOUT has been within 6.5% of its regulated value for more than 200ms typ.", 3 FB (in) "Feedback Input. The voltage on this pin is compared to the internal reference voltage (1.232V) to keep the output in regulation. An external resistor divider is required between VOUT and FB to adjust the output voltage. (See Datasheet)", 4 GND (power) "Ground. Should be tied to a ground plane for best performance.", 5 C1- "Charge Pump Flying Capacitor, Negative Terminal.", 6 C1+ "Charge Pump Flying Capacitor, Positive Terminal.", 7 VIN (power) "Charge Pump Input Voltage. May be between 2V and 10V. VIN should be bypassed with a >=10uF low ESR capacitor as close as possible to the pin for best performance.", 8 VOUT (power) "Regulated Output Voltage. The output voltage is internally set to either 3V/5V, 3.3V/5V or adjustable using an external resistor divider (LTC1515). VOUT should be bypassed with a >= 10uF low ESR capacitor as close as (See Datasheet)"

## LTC1515CS8#PBF
designator U?
Step-Up / Step-Down Switched Capacitor DC/DC Converter with Reset, 2 to 10 V Vin, Adjustable Vout, 8-pin SOIC (S8-8), 0 to 70 degC, Pb-Free; Manufacturer: Linear Technology; PartNumber: LTC1515CS8#PBF; Frequency(kHz): 650; Ishutdown(uA): 1; Isupply(mA): 0.06; Max Iout(mA): 50; Vin Max(V): 10; Vin Min(V): 2; Voutput: Adj; PackageVersion: Rev. G, 03/2012; PackageReference: S8-8; PackageDescription: 8-Pin Plastic Small Outline (Narrow .150 Inch), Body 4.9 x 3.9 mm, Pitch 1.27 mm; Supplier 1: Digi-Key; Supplier Part Number 1: LTC1515CS8#PBF-ND; Supplier 2: Farnell; Supplier Part Number 2: 1273877; RoHS: TRUE; Mounting Technology: Surface Mount; ComponentLink1Description: Manufacturer URL; ComponentLink1URL: http://www.linear.com/; ComponentLink2Description: Datasheet; ComponentLink2URL: http://cds.linear.com/docs/en/datasheet/1515sf.pdf; ComponentLink3Description: Package Specification; ComponentLink3URL: http://cds.linear.com/docs/en/packaging/05081610_G_SO8.pdf
footprint LT-S8-8_N (SOIC, 8-Leads, Body 5x4mm, Pitch 1.27mm, IPC Medium Density)
footprint LT-S8-8_L (SOIC, 8-Leads, Body 5x4mm, Pitch 1.27mm, IPC High Density)
footprint LT-S8-8_M (SOIC, 8-Leads, Body 5x4mm, Pitch 1.27mm, IPC Low Density)
pins: 1 ~{SHDN} (in) "Shutdown Input. A logic low on the S\H\D\N\ pin puts the part into shutdown mode. A logic high (VS\H\D\N\ >= 1.6V) enables the charge pump regulator. At high VIN voltages, the S\H\D\N\ pin may still be controlled with 3V (See Datasheet)", 2 POR (oc) "Open-Drain Power-On Reset Output. This pin will pull low upon initial power-up, during shutdown or until VOUT has been within 6.5% of its regulated value for more than 200ms typ.", 3 FB (in) "Feedback Input. The voltage on this pin is compared to the internal reference voltage (1.232V) to keep the output in regulation. An external resistor divider is required between VOUT and FB to adjust the output voltage. (See Datasheet)", 4 GND (power) "Ground. Should be tied to a ground plane for best performance.", 5 C1- "Charge Pump Flying Capacitor, Negative Terminal.", 6 C1+ "Charge Pump Flying Capacitor, Positive Terminal.", 7 VIN (power) "Charge Pump Input Voltage. May be between 2V and 10V. VIN should be bypassed with a >=10uF low ESR capacitor as close as possible to the pin for best performance.", 8 VOUT (power) "Regulated Output Voltage. The output voltage is internally set to either 3V/5V, 3.3V/5V or adjustable using an external resistor divider (LTC1515). VOUT should be bypassed with a >= 10uF low ESR capacitor as close as (See Datasheet)"

## LTC1515CS8#TR
designator U?
Step-Up / Step-Down Switched Capacitor DC/DC Converter with Reset, 2 to 10 V Vin, Adjustable Vout, 8-pin SOIC (S8-8), 0 to 70 degC, Tape and Reel; Manufacturer: Linear Technology; PartNumber: LTC1515CS8#TR; Frequency(kHz): 650; Ishutdown(uA): 1; Isupply(mA): 0.06; Max Iout(mA): 50; Vin Max(V): 10; Vin Min(V): 2; Voutput: Adj; PackageVersion: Rev. G, 03/2012; PackageReference: S8-8; PackageDescription: 8-Pin Plastic Small Outline (Narrow .150 Inch), Body 4.9 x 3.9 mm, Pitch 1.27 mm; Supplier 1: Digi-Key; Supplier Part Number 1: LTC1515CS8#TR-ND; Packing: Tape and Reel; RoHS: FALSE; Mounting Technology: Surface Mount; ComponentLink1Description: Manufacturer URL; ComponentLink1URL: http://www.linear.com/; ComponentLink2Description: Datasheet; ComponentLink2URL: http://cds.linear.com/docs/en/datasheet/1515sf.pdf; ComponentLink3Description: Package Specification; ComponentLink3URL: http://cds.linear.com/docs/en/packaging/05081610_G_SO8.pdf
footprint LT-S8-8_N (SOIC, 8-Leads, Body 5x4mm, Pitch 1.27mm, IPC Medium Density)
footprint LT-S8-8_L (SOIC, 8-Leads, Body 5x4mm, Pitch 1.27mm, IPC High Density)
footprint LT-S8-8_M (SOIC, 8-Leads, Body 5x4mm, Pitch 1.27mm, IPC Low Density)
pins: 1 ~{SHDN} (in) "Shutdown Input. A logic low on the S\H\D\N\ pin puts the part into shutdown mode. A logic high (VS\H\D\N\ >= 1.6V) enables the charge pump regulator. At high VIN voltages, the S\H\D\N\ pin may still be controlled with 3V (See Datasheet)", 2 POR (oc) "Open-Drain Power-On Reset Output. This pin will pull low upon initial power-up, during shutdown or until VOUT has been within 6.5% of its regulated value for more than 200ms typ.", 3 FB (in) "Feedback Input. The voltage on this pin is compared to the internal reference voltage (1.232V) to keep the output in regulation. An external resistor divider is required between VOUT and FB to adjust the output voltage. (See Datasheet)", 4 GND (power) "Ground. Should be tied to a ground plane for best performance.", 5 C1- "Charge Pump Flying Capacitor, Negative Terminal.", 6 C1+ "Charge Pump Flying Capacitor, Positive Terminal.", 7 VIN (power) "Charge Pump Input Voltage. May be between 2V and 10V. VIN should be bypassed with a >=10uF low ESR capacitor as close as possible to the pin for best performance.", 8 VOUT (power) "Regulated Output Voltage. The output voltage is internally set to either 3V/5V, 3.3V/5V or adjustable using an external resistor divider (LTC1515). VOUT should be bypassed with a >= 10uF low ESR capacitor as close as (See Datasheet)"

## LTC1515CS8#TRPBF
designator U?
Step-Up / Step-Down Switched Capacitor DC/DC Converter with Reset, 2 to 10 V Vin, Adjustable Vout, 8-pin SOIC (S8-8), 0 to 70 degC, Pb-Free, Tape and Reel; Manufacturer: Linear Technology; PartNumber: LTC1515CS8#TRPBF; Frequency(kHz): 650; Ishutdown(uA): 1; Isupply(mA): 0.06; Max Iout(mA): 50; Vin Max(V): 10; Vin Min(V): 2; Voutput: Adj; PackageVersion: Rev. G, 03/2012; PackageReference: S8-8; PackageDescription: 8-Pin Plastic Small Outline (Narrow .150 Inch), Body 4.9 x 3.9 mm, Pitch 1.27 mm; Supplier 1: Digi-Key; Supplier Part Number 1: LTC1515CS8#TRPBF-ND; Packing: Tape and Reel; RoHS: TRUE; Mounting Technology: Surface Mount; ComponentLink1Description: Manufacturer URL; ComponentLink1URL: http://www.linear.com/; ComponentLink2Description: Datasheet; ComponentLink2URL: http://cds.linear.com/docs/en/datasheet/1515sf.pdf; ComponentLink3Description: Package Specification; ComponentLink3URL: http://cds.linear.com/docs/en/packaging/05081610_G_SO8.pdf
footprint LT-S8-8_N (SOIC, 8-Leads, Body 5x4mm, Pitch 1.27mm, IPC Medium Density)
footprint LT-S8-8_L (SOIC, 8-Leads, Body 5x4mm, Pitch 1.27mm, IPC High Density)
footprint LT-S8-8_M (SOIC, 8-Leads, Body 5x4mm, Pitch 1.27mm, IPC Low Density)
pins: 1 ~{SHDN} (in) "Shutdown Input. A logic low on the S\H\D\N\ pin puts the part into shutdown mode. A logic high (VS\H\D\N\ >= 1.6V) enables the charge pump regulator. At high VIN voltages, the S\H\D\N\ pin may still be controlled with 3V (See Datasheet)", 2 POR (oc) "Open-Drain Power-On Reset Output. This pin will pull low upon initial power-up, during shutdown or until VOUT has been within 6.5% of its regulated value for more than 200ms typ.", 3 FB (in) "Feedback Input. The voltage on this pin is compared to the internal reference voltage (1.232V) to keep the output in regulation. An external resistor divider is required between VOUT and FB to adjust the output voltage. (See Datasheet)", 4 GND (power) "Ground. Should be tied to a ground plane for best performance.", 5 C1- "Charge Pump Flying Capacitor, Negative Terminal.", 6 C1+ "Charge Pump Flying Capacitor, Positive Terminal.", 7 VIN (power) "Charge Pump Input Voltage. May be between 2V and 10V. VIN should be bypassed with a >=10uF low ESR capacitor as close as possible to the pin for best performance.", 8 VOUT (power) "Regulated Output Voltage. The output voltage is internally set to either 3V/5V, 3.3V/5V or adjustable using an external resistor divider (LTC1515). VOUT should be bypassed with a >= 10uF low ESR capacitor as close as (See Datasheet)"

## LTC1515CS8-3.3/5
designator U?
Step-Up / Step-Down Switched Capacitor DC/DC Converter with Reset, 2 to 8 / 2.7 to 10 V Vin, 3.3 / 5 V Vout, 8-pin SOIC (S8-8), 0 to 70 degC; Manufacturer: Linear Technology; PartNumber: LTC1515CS8-3.3/5; Frequency(kHz): 650; Ishutdown(uA): 1; Isupply(mA): 0.06; Max Iout(mA): 50; Vin Max(V): 8, 10; Vin Min(V): 2, 2.7; Voutput: 3.3V, 5V; PackageVersion: Rev. G, 03/2012; PackageReference: S8-8; PackageDescription: 8-Pin Plastic Small Outline (Narrow .150 Inch), Body 4.9 x 3.9 mm, Pitch 1.27 mm; Supplier 1: Digi-Key; Supplier Part Number 1: LTC1515CS8-3.3/5-ND; RoHS: FALSE; Mounting Technology: Surface Mount; ComponentLink1Description: Manufacturer URL; ComponentLink1URL: http://www.linear.com/; ComponentLink2Description: Datasheet; ComponentLink2URL: http://cds.linear.com/docs/en/datasheet/1515sf.pdf; ComponentLink3Description: Package Specification; ComponentLink3URL: http://cds.linear.com/docs/en/packaging/05081610_G_SO8.pdf
footprint LT-S8-8_N (SOIC, 8-Leads, Body 5x4mm, Pitch 1.27mm, IPC Medium Density)
footprint LT-S8-8_L (SOIC, 8-Leads, Body 5x4mm, Pitch 1.27mm, IPC High Density)
footprint LT-S8-8_M (SOIC, 8-Leads, Body 5x4mm, Pitch 1.27mm, IPC Low Density)
pins: 1 ~{SHDN} (in) "Shutdown Input. A logic low on the S\H\D\N\ pin puts the part into shutdown mode. A logic high (VS\H\D\N\ >= 1.6V) enables the charge pump regulator. At high VIN voltages, the S\H\D\N\ pin may still be controlled with 3V (See Datasheet)", 2 POR (oc) "Open-Drain Power-On Reset Output. This pin will pull low upon initial power-up, during shutdown or until VOUT has been within 6.5% of its regulated value for more than 200ms typ.", 3 5/~{3} (in) "Output Voltage Select. A logic high on the 5/3\ pin will force VOUT to regulate to 5V. A logic low will force VOUT to 3V (LTC1515-3/5) or 3.3V (LTC1515- 3.3/5). As with the S\H\D\N\ pin, the 5/3\ pin may be driven with 3V (See Datasheet)", 4 GND (power) "Ground. Should be tied to a ground plane for best performance.", 5 C1- "Charge Pump Flying Capacitor, Negative Terminal.", 6 C1+ "Charge Pump Flying Capacitor, Positive Terminal.", 7 VIN (power) "Charge Pump Input Voltage. May be between 2V and 10V. VIN should be bypassed with a >=10uF low ESR capacitor as close as possible to the pin for best performance.", 8 VOUT (power) "Regulated Output Voltage. The output voltage is internally set to either 3V/5V, 3.3V/5V or adjustable using an external resistor divider (LTC1515). VOUT should be bypassed with a >= 10uF low ESR capacitor as close as (See Datasheet)"

## LTC1515CS8-3.3/5#PBF
designator U?
Step-Up / Step-Down Switched Capacitor DC/DC Converter with Reset, 2 to 8 / 2.7 to 10 V Vin, 3.3 / 5 V Vout, 8-pin SOIC (S8-8), 0 to 70 degC, Pb-Free; Manufacturer: Linear Technology; PartNumber: LTC1515CS8-3.3/5#PBF; Frequency(kHz): 650; Ishutdown(uA): 1; Isupply(mA): 0.06; Max Iout(mA): 50; Vin Max(V): 8, 10; Vin Min(V): 2, 2.7; Voutput: 3.3V, 5V; PackageVersion: Rev. G, 03/2012; PackageReference: S8-8; PackageDescription: 8-Pin Plastic Small Outline (Narrow .150 Inch), Body 4.9 x 3.9 mm, Pitch 1.27 mm; Supplier 1: Digi-Key; Supplier Part Number 1: LTC1515CS8-3.3/5#PBF-ND; RoHS: TRUE; Mounting Technology: Surface Mount; ComponentLink1Description: Manufacturer URL; ComponentLink1URL: http://www.linear.com/; ComponentLink2Description: Datasheet; ComponentLink2URL: http://cds.linear.com/docs/en/datasheet/1515sf.pdf; ComponentLink3Description: Package Specification; ComponentLink3URL: http://cds.linear.com/docs/en/packaging/05081610_G_SO8.pdf
footprint LT-S8-8_N (SOIC, 8-Leads, Body 5x4mm, Pitch 1.27mm, IPC Medium Density)
footprint LT-S8-8_L (SOIC, 8-Leads, Body 5x4mm, Pitch 1.27mm, IPC High Density)
footprint LT-S8-8_M (SOIC, 8-Leads, Body 5x4mm, Pitch 1.27mm, IPC Low Density)
pins: 1 ~{SHDN} (in) "Shutdown Input. A logic low on the S\H\D\N\ pin puts the part into shutdown mode. A logic high (VS\H\D\N\ >= 1.6V) enables the charge pump regulator. At high VIN voltages, the S\H\D\N\ pin may still be controlled with 3V (See Datasheet)", 2 POR (oc) "Open-Drain Power-On Reset Output. This pin will pull low upon initial power-up, during shutdown or until VOUT has been within 6.5% of its regulated value for more than 200ms typ.", 3 5/~{3} (in) "Output Voltage Select. A logic high on the 5/3\ pin will force VOUT to regulate to 5V. A logic low will force VOUT to 3V (LTC1515-3/5) or 3.3V (LTC1515- 3.3/5). As with the S\H\D\N\ pin, the 5/3\ pin may be driven with 3V (See Datasheet)", 4 GND (power) "Ground. Should be tied to a ground plane for best performance.", 5 C1- "Charge Pump Flying Capacitor, Negative Terminal.", 6 C1+ "Charge Pump Flying Capacitor, Positive Terminal.", 7 VIN (power) "Charge Pump Input Voltage. May be between 2V and 10V. VIN should be bypassed with a >=10uF low ESR capacitor as close as possible to the pin for best performance.", 8 VOUT (power) "Regulated Output Voltage. The output voltage is internally set to either 3V/5V, 3.3V/5V or adjustable using an external resistor divider (LTC1515). VOUT should be bypassed with a >= 10uF low ESR capacitor as close as (See Datasheet)"

## LTC1515CS8-3.3/5#TR
designator U?
Step-Up / Step-Down Switched Capacitor DC/DC Converter with Reset, 2 to 8 / 2.7 to 10 V Vin, 3.3 / 5 V Vout, 8-pin SOIC (S8-8), 0 to 70 degC, Tape and Reel; Manufacturer: Linear Technology; PartNumber: LTC1515CS8-3.3/5#TR; Frequency(kHz): 650; Ishutdown(uA): 1; Isupply(mA): 0.06; Max Iout(mA): 50; Vin Max(V): 8, 10; Vin Min(V): 2, 2.7; Voutput: 3.3V, 5V; PackageVersion: Rev. G, 03/2012; PackageReference: S8-8; PackageDescription: 8-Pin Plastic Small Outline (Narrow .150 Inch), Body 4.9 x 3.9 mm, Pitch 1.27 mm; Supplier 1: Digi-Key; Supplier Part Number 1: LTC1515CS8-3.35TR-ND; Packing: Tape and Reel; RoHS: FALSE; Mounting Technology: Surface Mount; ComponentLink1Description: Manufacturer URL; ComponentLink1URL: http://www.linear.com/; ComponentLink2Description: Datasheet; ComponentLink2URL: http://cds.linear.com/docs/en/datasheet/1515sf.pdf; ComponentLink3Description: Package Specification; ComponentLink3URL: http://cds.linear.com/docs/en/packaging/05081610_G_SO8.pdf
footprint LT-S8-8_N (SOIC, 8-Leads, Body 5x4mm, Pitch 1.27mm, IPC Medium Density)
footprint LT-S8-8_L (SOIC, 8-Leads, Body 5x4mm, Pitch 1.27mm, IPC High Density)
footprint LT-S8-8_M (SOIC, 8-Leads, Body 5x4mm, Pitch 1.27mm, IPC Low Density)
pins: 1 ~{SHDN} (in) "Shutdown Input. A logic low on the S\H\D\N\ pin puts the part into shutdown mode. A logic high (VS\H\D\N\ >= 1.6V) enables the charge pump regulator. At high VIN voltages, the S\H\D\N\ pin may still be controlled with 3V (See Datasheet)", 2 POR (oc) "Open-Drain Power-On Reset Output. This pin will pull low upon initial power-up, during shutdown or until VOUT has been within 6.5% of its regulated value for more than 200ms typ.", 3 5/~{3} (in) "Output Voltage Select. A logic high on the 5/3\ pin will force VOUT to regulate to 5V. A logic low will force VOUT to 3V (LTC1515-3/5) or 3.3V (LTC1515- 3.3/5). As with the S\H\D\N\ pin, the 5/3\ pin may be driven with 3V (See Datasheet)", 4 GND (power) "Ground. Should be tied to a ground plane for best performance.", 5 C1- "Charge Pump Flying Capacitor, Negative Terminal.", 6 C1+ "Charge Pump Flying Capacitor, Positive Terminal.", 7 VIN (power) "Charge Pump Input Voltage. May be between 2V and 10V. VIN should be bypassed with a >=10uF low ESR capacitor as close as possible to the pin for best performance.", 8 VOUT (power) "Regulated Output Voltage. The output voltage is internally set to either 3V/5V, 3.3V/5V or adjustable using an external resistor divider (LTC1515). VOUT should be bypassed with a >= 10uF low ESR capacitor as close as (See Datasheet)"

## LTC1515CS8-3.3/5#TRPBF
designator U?
Step-Up / Step-Down Switched Capacitor DC/DC Converter with Reset, 2 to 8 / 2.7 to 10 V Vin, 3.3 / 5 V Vout, 8-pin SOIC (S8-8), 0 to 70 degC, Pb-Free, Tape and Reel; Manufacturer: Linear Technology; PartNumber: LTC1515CS8-3.3/5#TRPBF; Frequency(kHz): 650; Ishutdown(uA): 1; Isupply(mA): 0.06; Max Iout(mA): 50; Vin Max(V): 8, 10; Vin Min(V): 2, 2.7; Voutput: 3.3V, 5V; PackageVersion: Rev. G, 03/2012; PackageReference: S8-8; PackageDescription: 8-Pin Plastic Small Outline (Narrow .150 Inch), Body 4.9 x 3.9 mm, Pitch 1.27 mm; Supplier 1: Digi-Key; Supplier Part Number 1: LTC1515CS8-3.3/5#TRPBF-ND; Packing: Tape and Reel; RoHS: TRUE; Mounting Technology: Surface Mount; ComponentLink1Description: Manufacturer URL; ComponentLink1URL: http://www.linear.com/; ComponentLink2Description: Datasheet; ComponentLink2URL: http://cds.linear.com/docs/en/datasheet/1515sf.pdf; ComponentLink3Description: Package Specification; ComponentLink3URL: http://cds.linear.com/docs/en/packaging/05081610_G_SO8.pdf
footprint LT-S8-8_N (SOIC, 8-Leads, Body 5x4mm, Pitch 1.27mm, IPC Medium Density)
footprint LT-S8-8_L (SOIC, 8-Leads, Body 5x4mm, Pitch 1.27mm, IPC High Density)
footprint LT-S8-8_M (SOIC, 8-Leads, Body 5x4mm, Pitch 1.27mm, IPC Low Density)
pins: 1 ~{SHDN} (in) "Shutdown Input. A logic low on the S\H\D\N\ pin puts the part into shutdown mode. A logic high (VS\H\D\N\ >= 1.6V) enables the charge pump regulator. At high VIN voltages, the S\H\D\N\ pin may still be controlled with 3V (See Datasheet)", 2 POR (oc) "Open-Drain Power-On Reset Output. This pin will pull low upon initial power-up, during shutdown or until VOUT has been within 6.5% of its regulated value for more than 200ms typ.", 3 5/~{3} (in) "Output Voltage Select. A logic high on the 5/3\ pin will force VOUT to regulate to 5V. A logic low will force VOUT to 3V (LTC1515-3/5) or 3.3V (LTC1515- 3.3/5). As with the S\H\D\N\ pin, the 5/3\ pin may be driven with 3V (See Datasheet)", 4 GND (power) "Ground. Should be tied to a ground plane for best performance.", 5 C1- "Charge Pump Flying Capacitor, Negative Terminal.", 6 C1+ "Charge Pump Flying Capacitor, Positive Terminal.", 7 VIN (power) "Charge Pump Input Voltage. May be between 2V and 10V. VIN should be bypassed with a >=10uF low ESR capacitor as close as possible to the pin for best performance.", 8 VOUT (power) "Regulated Output Voltage. The output voltage is internally set to either 3V/5V, 3.3V/5V or adjustable using an external resistor divider (LTC1515). VOUT should be bypassed with a >= 10uF low ESR capacitor as close as (See Datasheet)"